# Altium schematic symbol library 0.96OLED.SchLib: 1 symbol
Pins are listed as number, name and electrical type; pins without a type are passive.

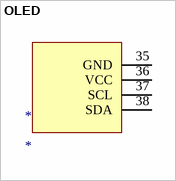
[diagram p0: symbol OLED]

## OLED
designator *
footprint 0.96OLEDIIC
pins: 35 GND, 36 VCC, 37 SCL, 38 SDA